# EAGLE library part TEST_DEVICE (library newSD)
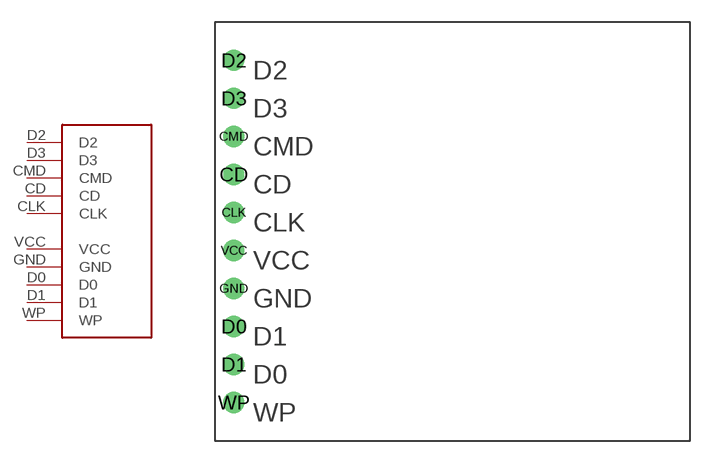
[diagram p0: symbol with the pads of BREAKOUT; footprint BREAKOUT]

Designator prefix -

## TEST_DEVICE  [BREAKOUT]
CD  CD
CLK  CLK
CMD  CMD
D0  D0
D1  D1
D2  D2
D3  D3
GND  GND
VCC  VCC
WP  WP

## Footprint BREAKOUT (pad centres in mm)
drill 0.9: CD 1.27,-7.62; CLK 1.27,-10.16; CMD 1.27,-5.08; D0 1.27,-17.78; D1 1.27,-20.32; D2 1.27,0; D3 1.27,-2.54; GND 1.27,-15.24; VCC 1.27,-12.7; WP 1.27,-22.86